# Altium schematic symbol library Schlib1.SchLib: 87 symbols
Pins are listed as number, name and electrical type; pins without a type are passive.

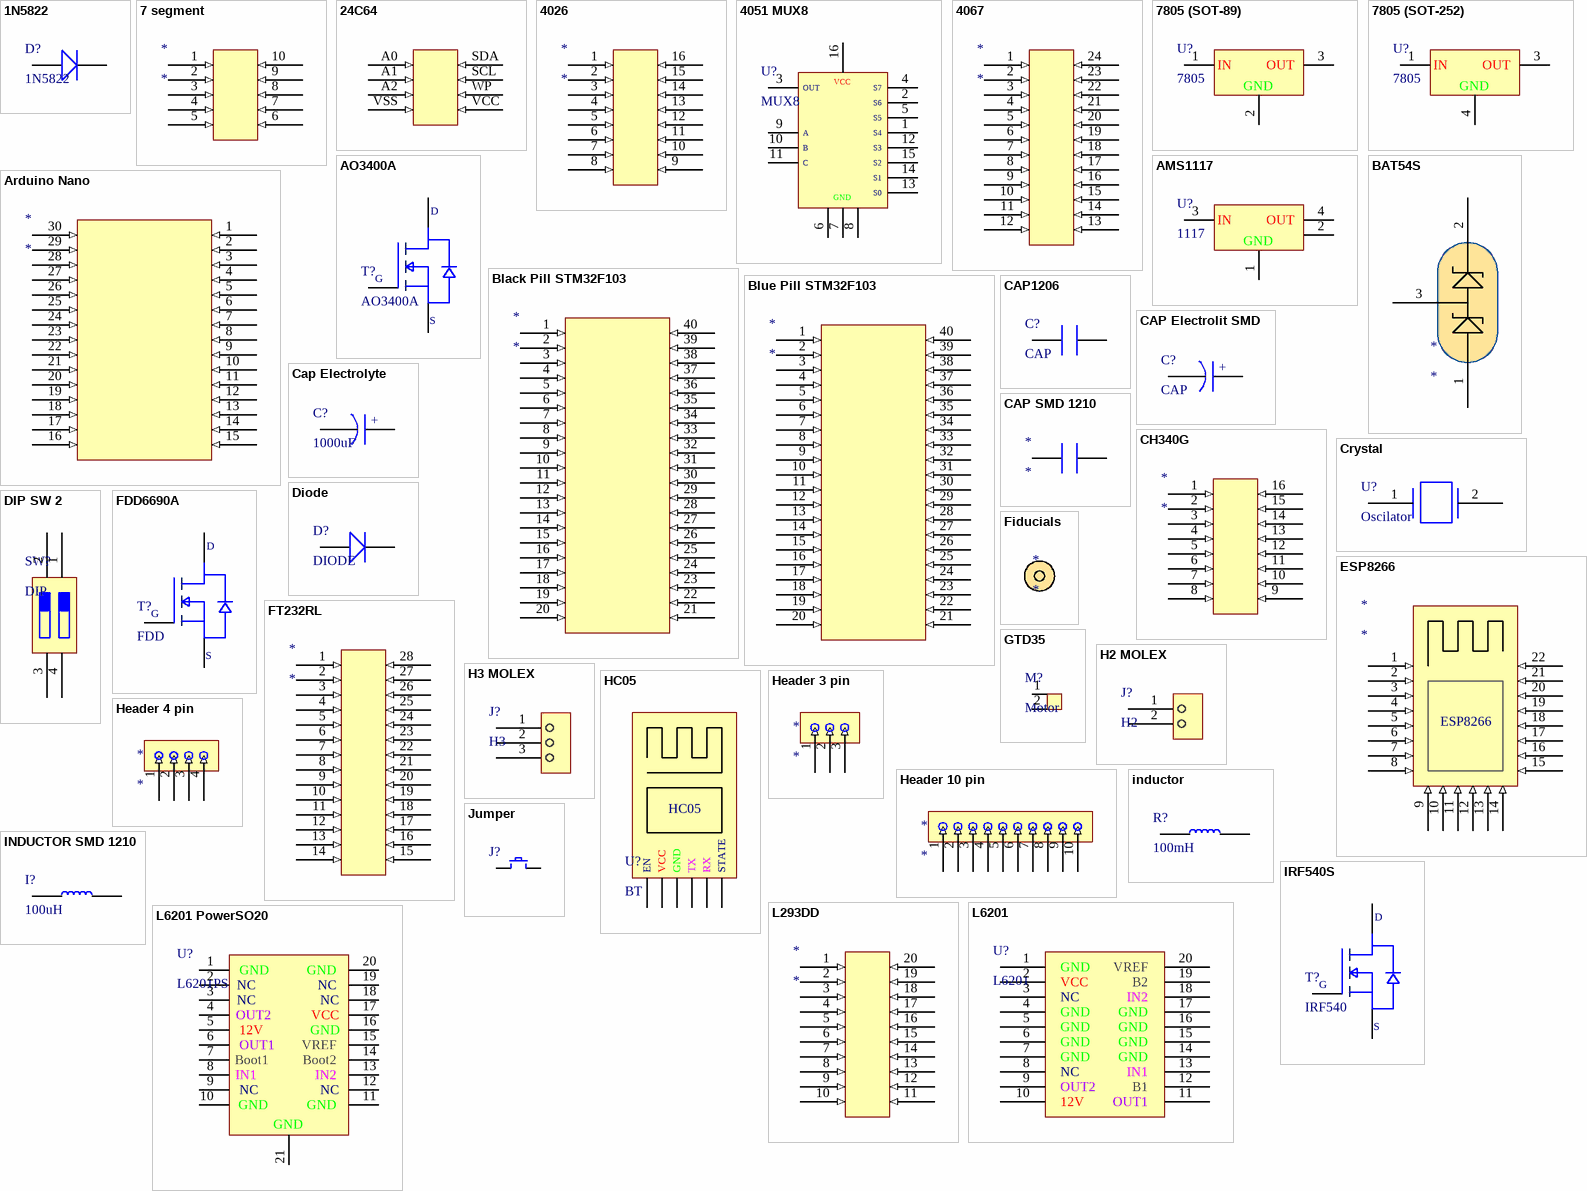
[diagram p0: symbols 1N5822 to L6201 PowerSO20]

## 1N5822
designator D?
1N5822 DIODE
footprint 1N5822
pins: 1, 2

## 7 segment
designator *
footprint 7 segment
pins: 1 (in), 2 (in), 3 (in), 4 (in), 5 (in), 6 (in), 7 (in), 8 (in), 9 (in), 10 (in)

## 24C64
designator ?
24C64 / 64KB eeprom memory
footprint 24C64 (SOIC, 8-Leads, Body 5.21x5.28mm, Pitch 1.27mm, IPC Medium Density); pin to pad A0>1 A1>2 A2>3 SCL>7 SDA>8 VCC>5 VSS>4 WP>6
pins: A0 (in), A1 (in), A2 (in), SCL (in), SDA (in), VCC (in), VSS (in), WP (in)

## 4026
designator *
footprint 4026
pins: 1 (in), 2 (in), 3 (in), 4 (in), 5 (in), 6 (in), 7 (in), 8 (in), 9 (in), 10 (in), 11 (in), 12 (in), 13 (in), 14 (in), 15 (in), 16 (in)

## 4051 MUX8
designator U?, comment MUX8
8Bit multiplexer/demultiplexer
footprint 4051 MUX8 (SOP, 16-Leads, Body 10.20x5.30mm, Pitch 1.27mm, IPC Medium Density)
pins: 1, 2, 3, 4, 5, 6, 7, 8, 9, 10, 11, 12, 13, 14, 15, 16
text: VCC; OUT; S7; S6; S5; A; S4; B; S3; C; S2; S1; S0; GND

## 4067
designator *
footprint 4067 (SOP, 24-Leads, Body 15.40x7.50mm, Pitch 1.27mm, IPC Medium Density)
pins: 1 (in), 2 (in), 3 (in), 4 (in), 5 (in), 6 (in), 7 (in), 8 (in), 9 (in), 10 (in), 11 (in), 12 (in), 13 (in), 14 (in), 15 (in), 16 (in), 17 (in), 18 (in), 19 (in), 20 (in), 21 (in), 22 (in), 23 (in), 24 (in)

## 7805 (SOT-89)
designator U?, comment 7805
5v Regulator
footprint 7805 (SOT-89) (SOT89, 3-Leads, Body 4.50x2.45mm, Pitch 1.50mm, Lead Span 4.1mm, IPC Medium Density)
pins: 1, 2, 3
text: IN; OUT; GND

## 7805 (SOT-252)
designator U?, comment 7805
5v Regulator
footprint 7805 (SOT-252) (D-PAK, 3-Pads, Body 6.25x6.71mm (max), IPC Medium Density)
pins: 1, 3, 4
text: IN; OUT; GND

## AMS1117
designator U?, comment 1117
3.3v Regulator
footprint AMS1117 (SOT223, 4-Leads, Body 6.30x7.00mm (avg), Pitch 2.30mm, IPC Medium Density)
pins: 1, 2, 3, 4
text: IN; OUT; GND

## AO3400A
designator T?
footprint AO3400A (SOT23, 3-Leads, Body 2.90x2.45mm, Pitch 0.95mm, IPC Medium Density)
pins: 1, 2, 3
text: D; G; S

## Arduino Nano
designator *
footprint Arduino Nano
pins: 1 (in), 2 (in), 3 (in), 4 (in), 5 (in), 6 (in), 7 (in), 8 (in), 9 (in), 10 (in), 11 (in), 12 (in), 13 (in), 14 (in), 15 (in), 16 (in), 17 (in), 18 (in), 19 (in), 20 (in), 21 (in), 22 (in), 23 (in), 24 (in), 25 (in), 26 (in), 27 (in), 28 (in), 29 (in), 30 (in)

## BAT54S
designator *
footprint BAT54S (SOT23, 3-Leads, Body 2.90x2.30mm, Pitch 0.95mm, IPC Medium Density)
pins: 1, 2, 3

## Black Pill STM32F103
designator *
footprint Black Pill STM32
pins: 1 (in), 2 (in), 3 (in), 4 (in), 5 (in), 6 (in), 7 (in), 8 (in), 9 (in), 10 (in), 11 (in), 12 (in), 13 (in), 14 (in), 15 (in), 16 (in), 17 (in), 18 (in), 19 (in), 20 (in), 21 (in), 22 (in), 23 (in), 24 (in), 25 (in), 26 (in), 27 (in), 28 (in), 29 (in), 30 (in), 31 (in), 32 (in), 33 (in), 34 (in), 35 (in), 36 (in), 37 (in), 38 (in), 39 (in), 40 (in)

## Blue Pill STM32F103
designator *
footprint Blue Pill STM32F103
pins: 1 (in), 2 (in), 3 (in), 4 (in), 5 (in), 6 (in), 7 (in), 8 (in), 9 (in), 10 (in), 11 (in), 12 (in), 13 (in), 14 (in), 15 (in), 16 (in), 17 (in), 18 (in), 19 (in), 20 (in), 21 (in), 22 (in), 23 (in), 24 (in), 25 (in), 26 (in), 27 (in), 28 (in), 29 (in), 30 (in), 31 (in), 32 (in), 33 (in), 34 (in), 35 (in), 36 (in), 37 (in), 38 (in), 39 (in), 40 (in)

## CAP1206
designator C?, comment CAP
Capacitor SMD 1206
footprint CAP1206 (Chip Capacitor, 2-Leads, Body 3.20x1.60mm, IPC Medium Density)
pins: 1, 2

## CAP Electrolit SMD
designator C?, comment CAP
Capacitor Electrolit SMD
footprint CAP SMD 100uF 16V
footprint CAP SMD 100uF 25V
footprint CAP SMD 100uF 35V
footprint CAP SMD 220uF 16V
footprint CAP SMD 470uF 16V
pins: 1, 2
text: +

## Cap Electrolyte
designator C?, comment 1000uF
CAP DIP
footprint CAP 5x10x13 black
pins: 1, 2
text: +

## CAP SMD 1210
designator *
footprint CAP SMD 1210
pins: 1, 2

## CH340G
designator *
footprint CH340G (SOIC, 16-Leads, Body 10.40x5.30mm, Pitch 1.27mm, IPC Medium Density)
pins: 1 (in), 2 (in), 3 (in), 4 (in), 5 (in), 6 (in), 7 (in), 8 (in), 9 (in), 10 (in), 11 (in), 12 (in), 13 (in), 14 (in), 15 (in), 16 (in)

## Crystal
designator U?, comment Oscilator
Crystal Oscilator 8MHz
footprint Crystal Oscilator
pins: 1, 2

## Diode
designator D?, comment DIODE
footprint Diode
pins: 1, 2

## DIP SW 2
designator SW?, comment DIP
DIP Switch 2 pin
footprint DIP Switch 2
pins: 1, 2, 3, 4

## ESP8266
designator *
footprint ESP8266
pins: 1 (in), 2 (in), 3 (in), 4 (in), 5 (in), 6 (in), 7 (in), 8 (in), 9 (in), 10 (in), 11 (in), 12 (in), 13 (in), 14 (in), 15 (in), 16 (in), 17 (in), 18 (in), 19 (in), 20 (in), 21 (in), 22 (in)

## FDD6690A
designator T?, comment FDD
FDD6690A MOSFET N-Chanel
footprint FDD6690A (D-PAK, 3-Pads, Body 5.85x6.66mm (max), IPC Medium Density)
pins: 1, 3, 4
text: D; G; S

## Fiducials
designator *
footprint Fiducials

## FT232RL
designator *
footprint FT232RL (SOP, 28-Leads, Body 10.28x5.30mm, Pitch 0.65mm, IPC Medium Density)
pins: 1 (in), 2 (in), 3 (in), 4 (in), 5 (in), 6 (in), 7 (in), 8 (in), 9 (in), 10 (in), 11 (in), 12 (in), 13 (in), 14 (in), 15 (in), 16 (in), 17 (in), 18 (in), 19 (in), 20 (in), 21 (in), 22 (in), 23 (in), 24 (in), 25 (in), 26 (in), 27 (in), 28 (in)

## GTD35
designator M?, comment Motor
footprint GTD35
pins: 1, 2

## H2 MOLEX
designator J?, comment H2
molex connector
footprint H2 MOLEX
footprint H2 MOLEX ANGLE
pins: 1, 2

## H3 MOLEX
designator J?, comment H3
molex connector
footprint H3 MOLEX
pins: 1, 2, 3

## HC05
designator U?, comment BT
Bluetooth HC05 Module
footprint HC05
pins: 1, 2, 3, 4, 5, 6
text: EN; VCC; GND; TX; RX; STATE

## Header 3 pin
designator *
footprint header 3 pin
pins: 1 (in), 2 (in), 3 (in)

## Header 4 pin
designator *
footprint Header 4 pin
pins: 1 (in), 2 (in), 3 (in), 4 (in)

## Header 10 pin
designator *
footprint Header 10 pin
pins: 1 (in), 2 (in), 3 (in), 4 (in), 5 (in), 6 (in), 7 (in), 8 (in), 9 (in), 10 (in)

## inductor
designator R?, comment 100mH
SELF INDUCTOR
footprint inductor
pins: 1, 2

## INDUCTOR SMD 1210
designator I?, comment 100uH
INDUCTOR SMD 1210
footprint INDUCTOR SMD 1210
pins: 1, 2

## IRF540S
designator T?, comment IRF540
IRF-540 MOSFET N-Chanel
footprint IRF540S (D2-PAK, 3-Pads, Body 7.93x8.70mm (max), IPC Medium Density)
pins: 1, 3, 4
text: D; G; S

## Jumper
designator J?
Jumper
footprint Jumper
pins: 1, 2

## L293DD
designator *
footprint L293DD (SOP, 20-Leads, Body 12.80x7.50mm, Pitch 1.27mm, IPC Medium Density)
pins: 1 (in), 2 (in), 3 (in), 4 (in), 5 (in), 6 (in), 7 (in), 8 (in), 9 (in), 10 (in), 11 (in), 12 (in), 13 (in), 14 (in), 15 (in), 16 (in), 17 (in), 18 (in), 19 (in), 20 (in)

## L6201
designator U?
footprint L6201 (SOP, 20-Leads, Body 12.80x7.50mm, Pitch 1.27mm, IPC Medium Density)
pins: 1, 2, 3, 4, 5, 6, 7, 8, 9, 10, 11, 12, 13, 14, 15, 16, 17, 18, 19, 20
text: GND; VREF; VCC; B2; NC; IN2; IN1; OUT2; B1; 12V; OUT1

## L6201 PowerSO20
designator U?, comment L6201PS
L6201 PowerSO20 Motor Driver
footprint L6201 PowerSO20 (SOIC, 20-Leads, Body 15.90x11.00mm, Pitch 1.27mm, Thermal Pad 9.80x6.20mm, IPC Medium Density)
pins: 1, 2, 3, 4, 5, 6, 7, 8, 9, 10, 11, 12, 13, 14, 15, 16, 17, 18, 19, 20, 21
text: GND; NC; OUT2; VCC; 12V; OUT1; VREF; Boot1; Boot2; IN1; IN2

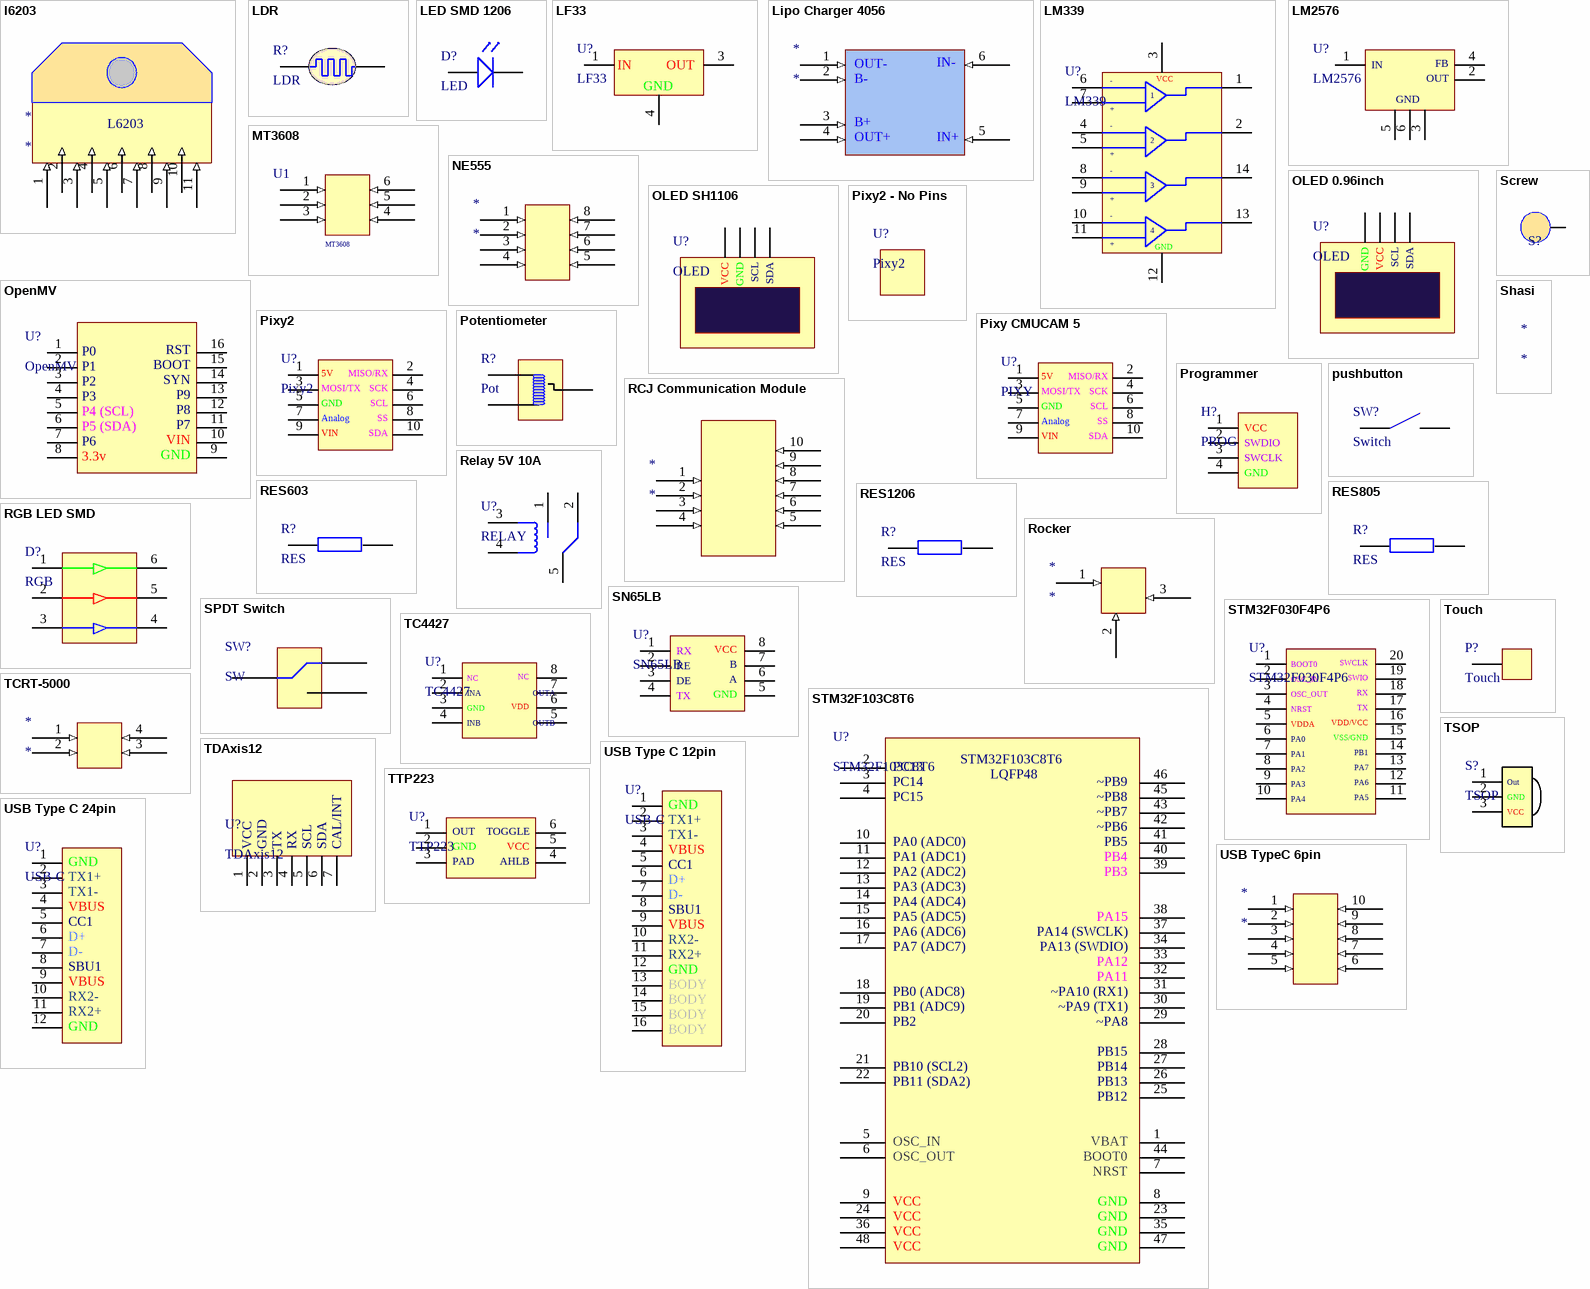
[diagram p1: symbols l6203 to USB TypeC 6pin]

## l6203
designator *
footprint L6203
footprint L6203 Strait
pins: 1 (in), 2 (in), 3 (in), 4 (in), 5 (in), 6 (in), 7 (in), 8 (in), 9 (in), 10 (in), 11 (in)
text: L6203

## LDR
designator R?
Light Depended Resistor
footprint LDR
pins: 1, 2

## LED SMD 1206
designator D?, comment LED
LED SMD 1206
footprint LED BLUE 1206
footprint LED RED 1206
footprint LED GREEN 1206
pins: 1, 2

## LF33
designator U?
3.3V Regulator
footprint LF33 (D-PAK, 3-Pads, Body 6.20x6.66mm (max), IPC Medium Density)
pins: 1, 3, 4
text: IN; OUT; GND

## Lipo Charger 4056
designator *
footprint Lipo Charger 4056
pins: 1 (in), 2 (in), 3 (in), 4 (in), 5 (in), 6 (in)
text: OUT-; IN-; B-; B+; OUT+; IN+

## LM339
designator U?
4 Channel Comparetor - OpAmp
footprint LM339 (SOIC, 14-Leads, Body 8.65x3.90mm, Pitch 1.27mm, IPC Medium Density)
pins: 1, 2, 3, 4, 5, 6, 7, 8, 9, 10, 11, 12, 13, 14
text: -; VCC; +; GND

## LM2576
designator U?
footprint LM2576
pins: 1, 2, 3, 4, 5, 6
text: IN; FB; OUT; GND

## MT3608
designator U1
footprint MT3608 (SOT23, 6-Leads, Body 2.90x2.80mm, Pitch 0.95mm, IPC Medium Density)
pins: 1 (in), 2 (in), 3 (in), 4 (in), 5 (in), 6 (in)

## NE555
designator *
footprint NE555 DIP
pins: 1 (in), 2 (in), 3 (in), 4 (in), 5 (in), 6 (in), 7 (in), 8 (in)

## OLED 0.96inch
designator U?, comment OLED
OLED SSD1306 0.9inch
footprint OLED 0.96inch
pins: 1, 2, 3, 4
text: GND; VCC; SCL; SDA

## OLED SH1106
designator U?, comment OLED
OLED SH1106 1.3inch
footprint OLED SH1106
pins: 1, 2, 3, 4
text: VCC; GND; SCL; SDA

## OpenMV
designator U?
OpenMV Camera H7 R2
footprint OpenMV
pins: 1, 2, 3, 4, 5, 6, 7, 8, 9, 10, 11, 12, 13, 14, 15, 16
text: P0; RST; P1; BOOT; P2; SYN; P3; P9; P4 (SCL); P8; P5 (SDA); P7; P6; VIN; 3.3v; GND

## Pixy2
designator U?
footprint Pixy2
pins: 1, 2, 3, 4, 5, 6, 7, 8, 9, 10
text: 5V; MISO/RX; MOSI/TX; SCK; GND; SCL; Analog; SS; VIN; SDA

## Pixy2 - No Pins
designator U?, comment Pixy2
footprint Pixy2 - NoPins

## Pixy CMUCAM 5
designator U?, comment PIXY
Pixy CMUCAM 5
footprint Pixy CMUCAM5
pins: 1, 2, 3, 4, 5, 6, 7, 8, 9, 10
text: 5V; MISO/RX; MOSI/TX; SCK; GND; SCL; Analog; SS; VIN; SDA

## Potentiometer
designator R?, comment Pot
SMD Potentiometer
footprint potentiometer
pins: 1, 2, 3

## Programmer
designator H?, comment PROG
footprint PROGRAMER
pins: 1, 2, 3, 4
text: VCC; SWDIO; SWCLK; GND

## pushbutton
designator SW?, comment Switch
Switch SMD Tact
footprint pushbutton
pins: 1, 2

## RCJ Communication Module
designator *
footprint RCJ Communication Module
pins: 1 (in), 2 (in), 3 (in), 4 (in), 5 (in), 6 (in), 7 (in), 8 (in), 9 (in), 10 (in)

## Relay 5V 10A
designator U?, comment RELAY
footprint Relay 5V 10A
pins: 1, 2, 3, 4, 5

## RES603
designator R?, comment RES
RESISTOR SMD
footprint RES603
pins: 1, 2

## RES805
designator R?, comment RES
RESISTOR SMD
footprint RES805
pins: 1, 2

## RES1206
designator R?, comment RES
RESISTOR SMD
footprint RES1206
pins: 1, 2

## RGB LED SMD
designator D?, comment RGB
RGB LED SMD
footprint RGB LED SMD
pins: 1, 2, 3, 4, 5, 6

## Rocker
designator *
footprint rocker
pins: 1 (in), 2 (in), 3 (in)

## Screw
designator S?, comment S  (value not drawn)  (mechanical)
Screw 3mm (M3)
footprint SCREW
pins: 1

## Shasi
designator *
footprint Shasi

## SN65LB
designator U?
BL DC MOTOR DRIVER
footprint SN65LB (SOP, 8-Leads, Body 4.90x3.90mm, Pitch 1.27mm, IPC Medium Density)
pins: 1, 2, 3, 4, 5, 6, 7, 8
text: RX; VCC; RE; B; DE; A; TX; GND

## SPDT Switch
designator SW?, comment SW
SPDT Power Switch
footprint SPDT Switch
pins: 1, 2, 3

## STM32F030F4P6
designator U?
footprint STM32F030F4P6 (TSOP, 20-Leads, Body 6.50x4.40mm, Pitch 0.65mm, IPC Medium Density)
pins: 1, 2, 3, 4, 5, 6, 7, 8, 9, 10, 11, 12, 13, 14, 15, 16, 17, 18, 19, 20
text: BOOT0; SWCLK; OSC_IN; SWIO; OSC_OUT; RX; NRST; TX; VDDA; VDD/VCC; PA0; VSS/GND; PA1; PB1; PA2; PA7; PA3; PA6; PA4; PA5

## STM32F103C8T6
designator U?
STM32F103C8T6 / LQFP48
footprint STM32F103C8 (TSQFP, 48-Leads, Body 7.00x7.00mm, Pitch 0.50mm, IPC Medium Density)
pins: 1, 2, 3, 4, 5, 6, 7, 8, 9, 10, 11, 12, 13, 14, 15, 16, 17, 18, 19, 20, 21, 22, 23, 24, 25, 26, 27, 28, 29, 30, 31, 32, 33, 34, 35, 36, 37, 38, 39, 40, 41, 42, 43, 44, 45, 46, 47, 48
text: PC13; LQFP48; ~PB9; PC14; ~PB8; PC15; ~PB7; ~PB6; PB5; PA0 (ADC0); PB4; PA1 (ADC1); PB3; PA2 (ADC2); PA3 (ADC3); PA4 (ADC4); PA15; PA5 (ADC5); PA14 (SWCLK); PA6 (ADC6); PA13 (SWDIO); PA7 (ADC7); PA12; PA11; ~PA10 (RX1); PB0 (ADC8); ~PA9 (TX1); PB1 (ADC9); ~PA8; PB2; PB15; PB14; PB10 (SCL2); PB13; PB11 (SDA2); PB12; VBAT; OSC_IN; BOOT0; OSC_OUT; NRST; GND; VCC

## TC4427
designator U?
TC4427 Mosfet Driver
footprint TC4427 (SOIC, 8-Leads, Body 4.90x3.85mm, Pitch 1.27mm, IPC Medium Density)
pins: 1, 2, 3, 4, 5, 6, 7, 8
text: NC; INA; OUTA; GND; VDD; INB; OUTB

## TCRT-5000
designator *
footprint TCRT-5000
pins: 1 (in), 2 (in), 3 (in), 4 (in)

## TDAxis12
designator U?
Gyroscpoe Sensor
footprint TDAxis12
pins: 1, 2, 3, 4, 5, 6, 7
text: VCC; GND; TX; RX; SCL; SDA; CAL/INT

## Touch
designator P?
Touch Pad
footprint Touch
pins: 1

## TSOP
designator S?
IR Sensor
footprint TSOP
pins: 1, 2, 3
text: Out; GND; VCC

## TTP223
designator U?
Touch Drive IC
footprint TTP223 (SOT23, 6-Leads, Body 2.90x2.85mm, Pitch 0.95mm, IPC Medium Density)
pins: 1, 2, 3, 4, 5, 6
text: OUT; TOGGLE; GND; VCC; PAD; AHLB

## USB Type C 12pin
designator U?, comment USB-C
USB TYPE C
footprint USB Type C 12pin
pins: 1, 2, 3, 4, 5, 6, 7, 8, 9, 10, 11, 12, 13, 14, 15, 16
text: GND; TX1+; TX1-; VBUS; CC1; D+; D-; SBU1; RX2-; RX2+; BODY

## USB Type C 24pin
designator U?, comment USB-C
USB Type C
footprint USB Type C 24pin
pins: 1, 2, 3, 4, 5, 6, 7, 8, 9, 10, 11, 12
text: GND; TX1+; TX1-; VBUS; CC1; D+; D-; SBU1; RX2-; RX2+

## USB TypeC 6pin
designator *
footprint USB Type C 6pin
pins: 1 (in), 2 (in), 3 (in), 4 (in), 5 (in), 6 (in), 7 (in), 8 (in), 9 (in), 10 (in)

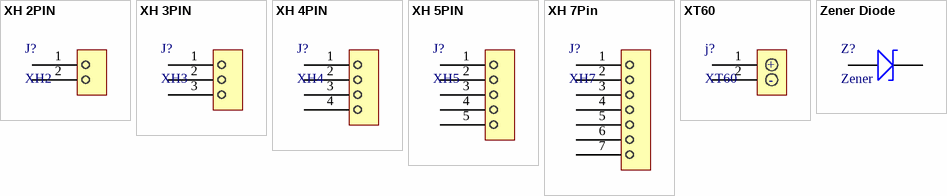
[diagram p2: symbols XH 2PIN to Zener Diode]

## XH 2PIN
designator J?, comment XH2
XH Connector 2pins
footprint XH 2pin
pins: 1, 2

## XH 3PIN
designator J?, comment XH3
XH Connector 3pins
footprint XH 3PIN
pins: 1, 2, 3

## XH 4PIN
designator J?, comment XH4
XH Connector 4pins
footprint XH 4PIN
pins: 1, 2, 3, 4

## XH 5PIN
designator J?, comment XH5
XH Connector 5pins
footprint XH 5PIN
pins: 1, 2, 3, 4, 5

## XH 7Pin
designator J?, comment XH7
XH Connector 7pins
footprint XH 7PIN
pins: 1, 2, 3, 4, 5, 6, 7

## XT60
designator j?
XT60 Power Connector
footprint XT60
pins: 1, 2
text: +; -

## Zener Diode
designator Z?, comment Zener
Zener Diode
footprint zener
pins: 1, 2